# EAGLE library part DSUB-09F (library 000-ece411)
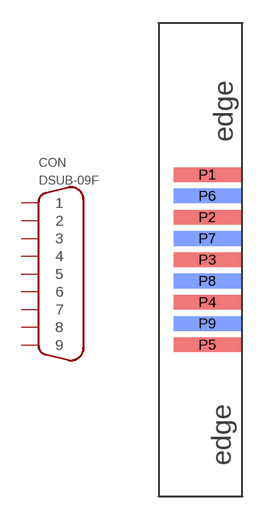
[diagram p3: symbol with the pads of DSUB09M-SOLDER-EDGE; footprint DSUB09M-SOLDER-EDGE]

Designator prefix CON

## DSUB-09F  [DSUB09M-SOLDER-EDGE]
P1  1
P2  2
P3  3
P4  4
P5  5
P6  6
P7  7
P8  8
P9  9

## Footprint DSUB09M-SOLDER-EDGE (pad centres in mm)
smd 4.35 x 0.95: P1 0,0; P2 0,-2.77; P3 0,-5.54; P4 0,-8.31; P5 0,-11.08
smd 4.35 x 0.95 bottom: P6 0,-1.385; P7 0,-4.155; P8 0,-6.925; P9 0,-9.695